# EAGLE library part MMA8653FC (library blinkinlabs)
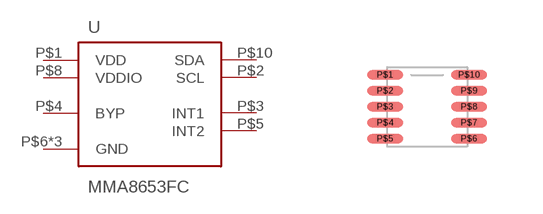
[diagram p31: symbol with the pads of VFDFN-10; footprint VFDFN-10]

Designator prefix -

## MMA8653FC  [VFDFN-10]
P$1  VDD
P$2  SCL
P$3  INT1
P$4  BYP
P$5  INT2
P$6  GND
P$7  GND
P$8  VDDIO
P$9  GND
P$10  SDA

## Footprint VFDFN-10 (pad centres in mm)
smd 0.9 x 0.225: P$1 -1.05,0.8; P$2 -1.05,0.4; P$3 -1.05,0; P$4 -1.05,-0.4; P$5 -1.05,-0.8; P$6 1.05,-0.8; P$7 1.05,-0.4; P$8 1.05,0; P$9 1.05,0.4; P$10 1.05,0.8